# Altium schematic symbol library Schematic_Resistors.SchLib: 2 symbols
Pins are listed as number, name and electrical type; pins without a type are passive.

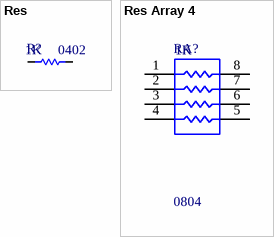
[diagram p0: symbols Res to Res Array 4]

## Res
designator R?  value 1K  PackageDescription: 0402
Resistor; Published: 8-Jun-2000; LatestRevisionDate: 17-Jul-2002; LatestRevisionNote: Re-released for DXP Platform.; PackageReference: AXIAL-0.3
simulation model RESISTOR (Resistor)
signal-integrity model Res
footprint RESC2012X06N (0805 Chip Resistor, 2-Leads, Body 2.00x1.25mm, IPC Medium Density)
footprint RESC1608X06N (0603 Chip Resistor, 2-Leads, Body 1.60x0.85mm, IPC Medium Density)
footprint RESC1005X04N (0402 Chip Resistor, 2-Leads, Body 1.00x0.50mm, IPC Medium Density)
pins: 1, 2

## Res Array 4
designator RA?, comment 0804  value 1K
Isolated Resistor Network
footprint RESCAV50P200X100-8L (0804, Concave, Resistor Array, 8-Leads, Pitch 0.50mm,  Body 2.00x1.00mm,  IPC High Density)
pins: 1, 2, 3, 4, 5, 6, 7, 8